# EAGLE library part LM2596SX-5.0_NOPB (library LM2596SX-5.0_NOPB)
SIMPLE SWITCHER® 4.5V to 40V, 3A Low Component Count Step-Down Regulator Source: Datasheet <http://www.ti.com/lit/gpn/lm2596>
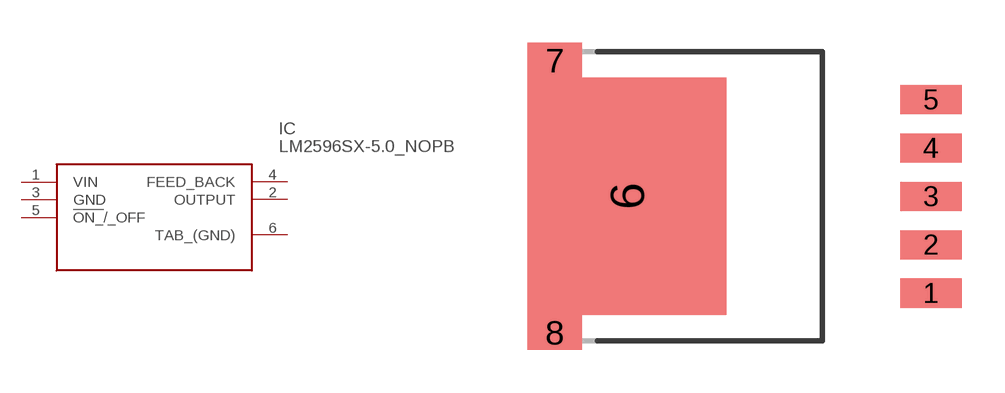
[diagram p0: symbol with the pads of KTT0005B; footprint KTT0005B]

Designator prefix IC

## LM2596SX-5.0_NOPB (DESCRIPTION: SIMPLE SWITCHER&#174; 4.5V to 40V, 3A Low Component Count Step-Down Regulator; HEIGHT: mm; MANUFACTURER_NAME: Texas Instruments; MANUFACTURER_PART_NUMBER: LM2596SX-5.0/NOPB; MOUSER_PART_NUMBER: 926-LM2596SX-5.0NOPB; MOUSER_PRICE-STOCK: https://www.mouser.co.uk/ProductDetail/Texas-Instruments/LM2596SX-5.0-NOPB?qs=X1J7HmVL2ZGZ5T4VcWdmNw%3D%3D)  [KTT0005B]
1  VIN
2  OUTPUT
3  GND
4  FEED_BACK
5  !ON_!/_OFF
6  TAB_(GND)

## Footprint KTT0005B (pad centres in mm)
KTT0005B
smd 2.16 x 1.02: 1 12.461,-3.4; 2 12.461,-1.7; 3 12.461,0; 4 12.461,1.7; 5 12.461,3.4
smd 6.99 x 8.33: 6 1.786,0
smd 1.91 x 1.235: 7 -0.754,4.782; 8 -0.754,-4.782